# EAGLE library part BH1749NUC (library FaBo-Sensor)
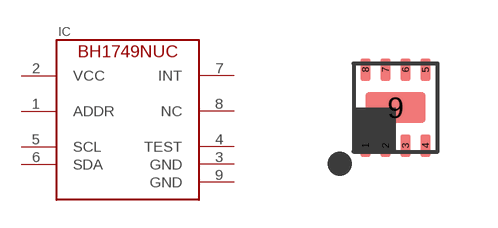
[diagram p20: symbol with the pads of WSON008X2120; footprint WSON008X2120]

Designator prefix IC

## BH1749NUC  [WSON008X2120]
1  ADDR
2  VCC
3  GND
4  TEST
5  SCL
6  SDA
7  INT
8  NC
9  GND

## Footprint WSON008X2120 (pad centres in mm)
smd 0.25 x 0.55: 1 -0.75,-0.95; 2 -0.25,-0.95; 3 0.25,-0.95; 4 0.75,-0.95; 5 0.75,0.95; 6 0.25,0.95; 7 -0.25,0.95; 8 -0.75,0.95
smd 1.5 x 0.75: 9 0,0